# Altium footprint library ModuleAmp_PcbLib.PcbLib: 12 footprints
Each footprint in its own frame and in the unit in brackets; x right, y up, seen from the top. Pads: shape width x height; smd on the part's side, far side on the other; paste and mask are expansions set on the pad; w line width, h text height; cw(c..) or ccw(c..) is an arc to the next point about the centre after c.
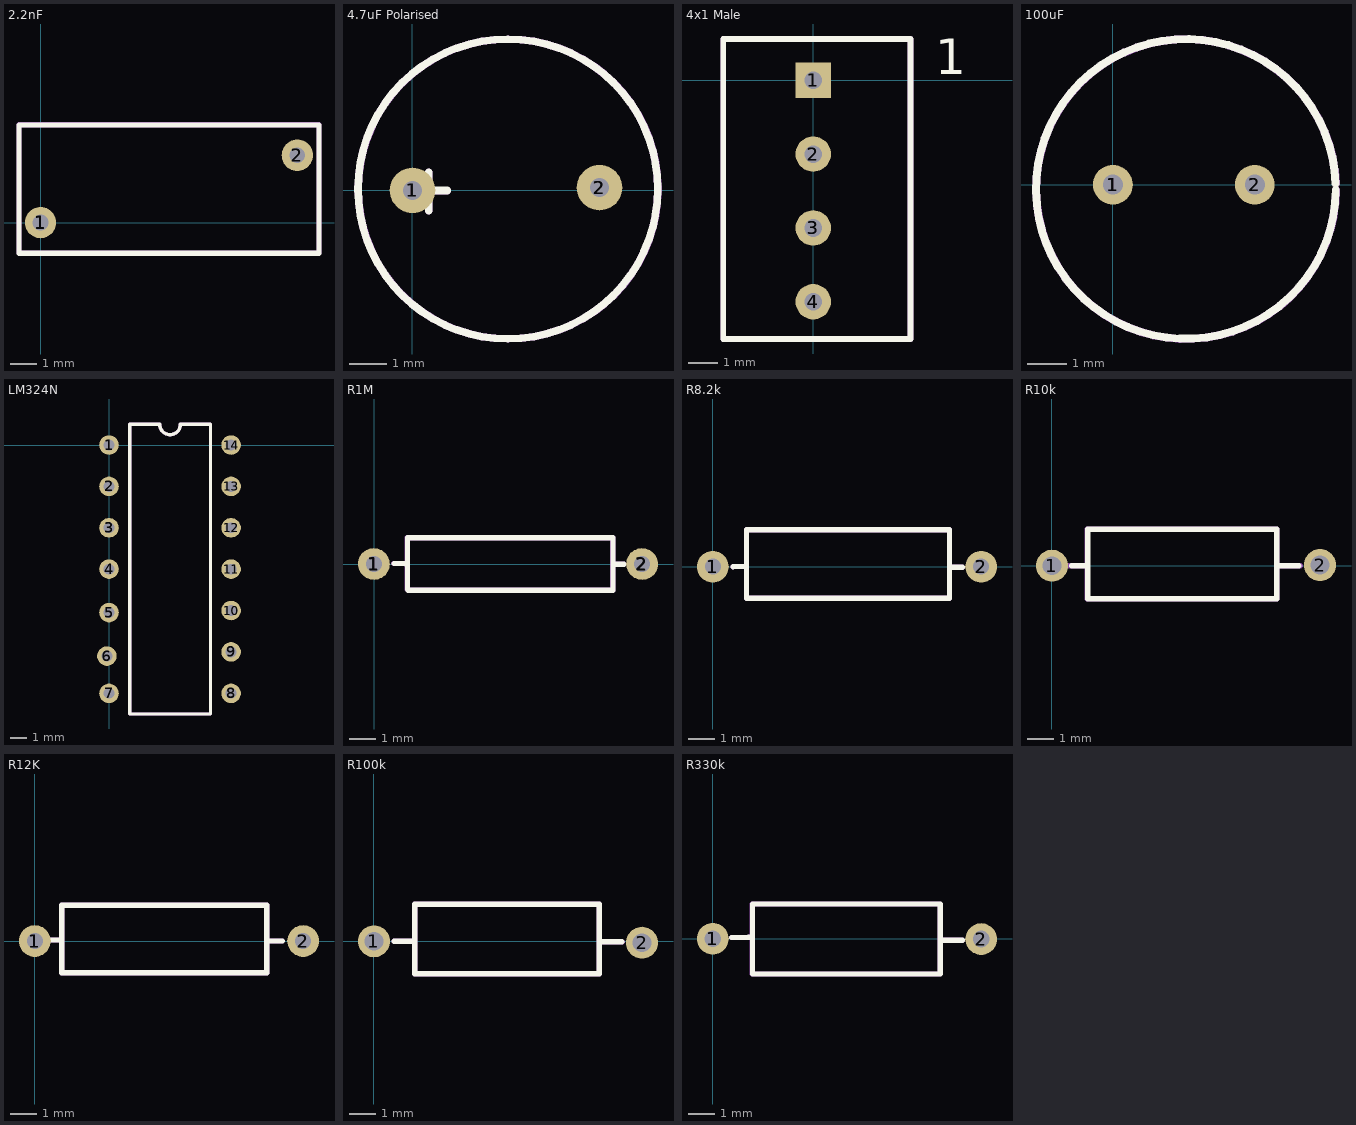
[diagram p0: the footprints below, top view; thin cyan lines are the x and y axes]

## 2.2nF [mm]
pads (4):
  round 1.2 hole 0.6: 1(0,0) 1(0.004,0.01) 2(9.866,2.587) 2(9.87,2.597)
Top Overlay:
  lines w0.2: -0.827,-1.172 -0.827,3.749 10.697,3.749 10.697,-1.172 -0.827,-1.172
Mechanical 14:
  lines w0.2: -0.823,-1.162 -0.823,3.759 10.701,3.759 10.701,-1.162 -0.823,-1.162
  text "'.Designator'" at 0.129,4.168 h1.2
3D body "C731U222MZWDAA7317.step": height 11.2, standoff -24.92, extent -0.677,-1.256 10.523,3.749
3D body "C731U222MZWDAA7317.step": height 11.2, standoff -24.92, extent -0.673,-1.246 10.527,3.759

## 4.7uF Polarised [mm]
pads (4):
  round 1.2 hole 0.5: 1(0,0) 1(0.007,-0.001) 2(4.949,0.07) 2(4.957,0.069)
Top Overlay:
  circle w0.2: c2.527,0.035 r3.966
  lines w0.2: -0.021,-0.005 0.917,-0.005 ; 0.429,-0.543 0.429,0.473
Mechanical 14:
  circle w0.2: c2.534,0.034 r3.966
  lines w0.2: -0.014,-0.006 0.924,-0.006 ; 0.436,-0.544 0.436,0.472
  text "'.Designator'" at 1.352,4.768 h1.2
3D body "ECA2EM4R7B.step": height 11.51, standoff -16.99, extent -1.494,-3.938 6.506,4.062
3D body "ECA2EM4R7B.step": height 11.51, standoff -16.99, extent -1.487,-3.939 6.513,4.061

## 4x1 Male [mm]
pads (8):
  rect 1.2x1.2 hole 0.6: 1(0,0) 1(0,0)
  round 1.2 hole 0.6: 2(0,-2.5) 2(0,-2.5) 3(0,-5) 3(0,-5) 4(0,-7.5) 4(0,-7.5)
Top Overlay:
  lines w0.2: -3.048,-8.763 -3.048,1.397 3.302,1.397 3.302,-8.763 -3.048,-8.763
  text "1" at 4.137,0.2 h1.2
Mechanical 14:
  lines w0.2: -3.048,-8.763 -3.048,1.397 3.302,1.397 3.302,-8.763 -3.048,-8.763
  text "'.Designator'" at -1.451,-2.321 h1.2
3D body "022232041.stp": height 10.68, standoff -3.54, extent -3.099,-8.687 3.251,1.321
3D body "022232041.stp": height 10.68, standoff -3.54, extent -3.099,-8.687 3.251,1.321

## 100uF [mm]
pads (4):
  round 1 hole 0.5: 1(0,0) 1(0.006,-0.004) 2(3.59,0) 2(3.596,-0.004)
Top Overlay:
  lines w0.2: 5.639,0.025 ccw(c1.849,-0.109) 5.642,-0.13
Mechanical 14:
  lines w0.2: 5.645,0.021 ccw(c1.855,-0.113) 5.647,-0.134
  text "'.Designator'" at -1.316,2.982 h1.2
3D body "User Library-capacity.step": height 12.51, standoff -9.99, extent -2.195,-4.058 5.805,3.942
3D body "User Library-capacity.step": height 12.51, standoff -9.99, extent -2.19,-4.062 5.81,3.938

## LM324N [mm]
pads (28):
  round 1.2 hole 0.66: 1(0,0) 1(0,0) 2(0,-2.54) 2(0,-2.54) 3(0,-5.08) 3(0,-5.08) 4(0,-7.62) 4(0,-7.62) 5(0,-10.287) 5(0,-10.287) 6(-0.127,-12.954) 6(-0.127,-12.954) 7(0,-15.24) 7(0,-15.24) 8(7.493,-15.24) 8(7.493,-15.24) 9(7.493,-12.7) 9(7.493,-12.7) 10(7.493,-10.16) 10(7.493,-10.16) 11(7.493,-7.62) 11(7.493,-7.62) 12(7.493,-5.08) 12(7.493,-5.08) 13(7.493,-2.54) 13(7.493,-2.54) 14(7.493,0) 14(7.493,0)
Top Overlay:
  lines w0.2: 1.27,-16.51 1.27,1.27 3.111,1.27 ccw(c3.746,1.27) 4.381,1.27 6.223,1.27 6.223,-16.51 1.27,-16.51
Mechanical 14:
  lines w0.2: 1.27,-16.51 1.27,1.27 3.111,1.27 ccw(c3.746,1.27) 4.381,1.27 6.223,1.27 6.223,-16.51 1.27,-16.51
  text "'.Designator'" at -1.705,0.854 h1.2
3D body "N0014A.stp": height 4.56, standoff -3.81, extent -0.381,-17.59 7.493,2.095
3D body "N0014A.stp": height 4.56, standoff -3.81, extent -0.381,-17.59 7.493,2.095

## PCBComponent_1 [mm]

## R1M [mm]
pads (4):
  round 1.2 hole 0.6: 1(-0.01,0.005) 1(0,0) 2(10.19,0.005) 2(10.2,0)
Top Overlay:
  lines w0.2: 0.764,0.019 1.208,0.017 ; 9.088,-0.011 9.503,-0.011 ; 1.276,-0.971 1.305,-1 9.088,-1 9.088,1 1.276,1 1.276,-0.971
Mechanical 14:
  lines w0.2: 0.755,0.024 1.199,0.022 ; 9.079,-0.006 9.493,-0.006 ; 1.266,-0.966 1.295,-0.995 9.079,-0.995 9.079,1.005 1.266,1.005 1.266,-0.966
  text "'.Designator'" at 1.307,1.992 h1.2
3D body "User Library-Res40-Axial 0_25W-1M.step": height 2.41, standoff -2, extent -0.295,-1.25 10.465,1.15
3D body "User Library-Res40-Axial 0_25W-1M.step": height 2.41, standoff -2, extent -0.305,-1.245 10.455,1.155

## R8.2k [mm]
pads (4):
  round 1.2 hole 0.6: 1(0,0) 1(0,0) 2(10.135,0) 2(10.135,0)
Top Overlay:
  lines w0.2: 0.761,0.003 1.271,0.007 ; 8.941,-0.025 9.423,-0.025 ; 1.27,-1.194 8.941,-1.194 8.941,1.397 1.27,1.397 1.27,-1.194
Mechanical 14:
  lines w0.2: 0.761,0.003 1.271,0.007 ; 8.941,-0.025 9.423,-0.025 ; 1.27,-1.194 8.941,-1.194 8.941,1.397 1.27,1.397 1.27,-1.194
  text "'.Designator'" at 2.74,2.048 h1.2
3D body "User Library-Res40-Axial 0_25W-8_2K.step": height 2.41, standoff -2, extent -0.3,-1.098 10.46,1.302
3D body "User Library-Res40-Axial 0_25W-8_2K.step": height 2.41, standoff -2, extent -0.3,-1.098 10.46,1.302

## R10k [mm]
pads (2):
  round 1.2 hole 0.7: 1(0,0) 2(10.058,0.025)
Top Overlay:
  lines w0.2: 0.737,0 1.337,0 ; 8.433,0 9.271,0 ; 1.337,0 1.337,-1.245 8.433,-1.245 8.433,1.372 1.337,1.372 1.337,0
Mechanical 14:
  lines w0.2: -0.305,0 1.321,0 ; 8.458,0 9.322,0 ; 1.321,0 1.321,-1.245 8.433,-1.245 8.433,1.372 1.321,1.372 1.321,0
  text "'.Designator'" at 1.978,1.108 h1.2
3D body "User Library-Res40-Axial Short 0_25W-10K.step": height 2.41, standoff -2, extent -0.33,-1.143 10.43,1.257

## R12K [mm]
pads (4):
  round 1.2 hole 0.6: 1(0,0) 1(0,0) 2(10.135,0) 2(10.135,0)
Top Overlay:
  lines w0.2: 0.559,0.038 1.016,0.038 ; 8.86,0 9.347,0 ; 1.016,-1.194 1.016,1.346 8.763,1.346 8.763,-1.194 1.016,-1.194
Mechanical 14:
  lines w0.2: 0.559,0.038 1.016,0.038 ; 8.86,0 9.347,0 ; 1.016,-1.194 1.016,1.346 8.763,1.346 8.763,-1.194 1.016,-1.194
  text "'.Designator'" at 2.461,1.082 h1.2
3D body "User Library-Res40-Axial 0_25W-12K.step": height 2.41, standoff -2, extent -0.305,-1.149 10.455,1.251
3D body "User Library-Res40-Axial 0_25W-12K.step": height 2.41, standoff -2, extent -0.305,-1.149 10.455,1.251

## R100k [mm]
pads (2):
  round 1.2 hole 0.7: 1(0,0) 2(10.058,-0.051)
Top Overlay:
  lines w0.2: 0.762,0 1.524,0 ; 8.509,-0.013 9.296,-0.013 ; 1.524,0 1.524,1.397 8.458,1.397 8.458,-1.219 1.524,-1.219 1.524,0
Mechanical 14:
  lines w0.2: 0.762,0 1.524,0 ; 8.458,-0.025 9.322,-0.025 ; 1.524,0 1.524,-1.219 8.458,-1.219 8.458,1.397 1.524,1.397 1.524,0
  text "'.Designator'" at 2.613,1.209 h1.2
3D body "User Library-Res40-Axial 0_25W-100K.step": height 2.41, standoff -2, extent -0.325,-1.124 10.435,1.276

## R330k [mm]
pads (4):
  round 1.2 hole 0.63: 1(-0.003,0) 1(0,0) 2(10.154,-0.013) 2(10.156,-0.013)
Top Overlay:
  lines w0.2: 0.707,0.043 1.36,0.056 ; 8.604,-0.055 9.451,-0.055 ; 1.496,-1.338 8.604,-1.338 8.604,1.316 1.496,1.316 1.496,-1.338
Mechanical 14:
  lines w0.2: 0.704,0.043 1.357,0.055 ; 8.602,-0.055 9.449,-0.055 ; 1.493,-1.338 8.602,-1.338 8.602,1.316 1.493,1.316 1.493,-1.338
  text "'.Designator'" at 2.059,1.638 h1.2
3D body "User Library-Res40-Axial 0_25W-330K.step": height 2.41, standoff -2, extent -0.301,-1.211 10.459,1.189
3D body "User Library-Res40-Axial 0_25W-330K.step": height 2.41, standoff -2, extent -0.304,-1.211 10.456,1.189